# Altium schematic symbol library Schlib1.SchLib: 1 symbol
Pins are listed as number, name and electrical type; pins without a type are passive.

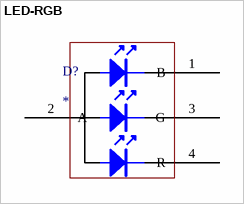
[diagram p0: symbol LED-RGB]

## LED-RGB
designator D?
footprint LED-RGB-3528 (Footprint not found)
pins: 1 B, 2 A, 3 G, 4 R